# EAGLE library part PIC18F4458 (library PIC18)
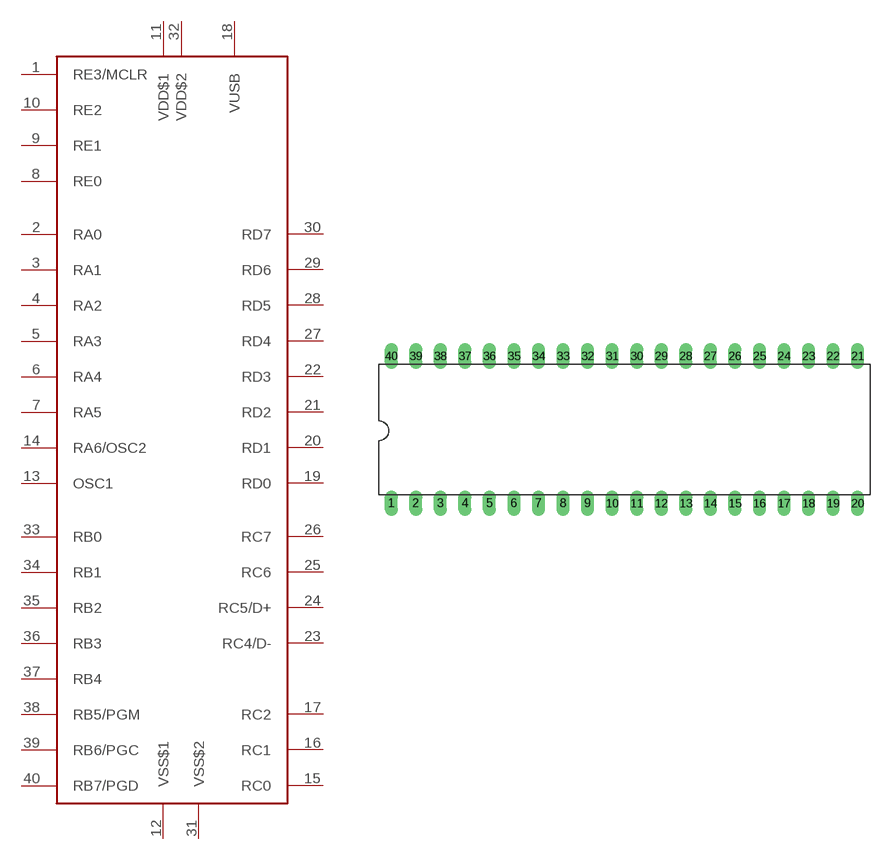
[diagram p0: symbol with the pads of DIL40; footprint DIL40]

Designator prefix -

## PIC18F4458  [DIL40]
1  RE3/MCLR
2  RA0
3  RA1
4  RA2
5  RA3
6  RA4
7  RA5
8  RE0
9  RE1
10  RE2
11  VDD$1
12  VSS$1
13  OSC1
14  RA6/OSC2
15  RC0
16  RC1
17  RC2
18  VUSB
19  RD0
20  RD1
21  RD2
22  RD3
23  RC4/D-
24  RC5/D+
25  RC6
26  RC7
27  RD4
28  RD5
29  RD6
30  RD7
31  VSS$2
32  VDD$2
33  RB0
34  RB1
35  RB2
36  RB3
37  RB4
38  RB5/PGM
39  RB6/PGC
40  RB7/PGD

## Footprint DIL40 (pad centres in mm)
Dual In Line Package
drill 0.813 long: 1 -24.13,-7.62; 2 -21.59,-7.62; 3 -19.05,-7.62; 4 -16.51,-7.62; 5 -13.97,-7.62; 6 -11.43,-7.62; 7 -8.89,-7.62; 8 -6.35,-7.62; 9 -3.81,-7.62; 10 -1.27,-7.62; 11 1.27,-7.62; 12 3.81,-7.62; 13 6.35,-7.62; 14 8.89,-7.62; 15 11.43,-7.62; 16 13.97,-7.62; 17 16.51,-7.62; 18 19.05,-7.62; 19 21.59,-7.62; 20 24.13,-7.62; 21 24.13,7.62; 22 21.59,7.62; 23 19.05,7.62; 24 16.51,7.62; 25 13.97,7.62; 26 11.43,7.62; 27 8.89,7.62; 28 6.35,7.62; 29 3.81,7.62; 30 1.27,7.62; 31 -1.27,7.62; 32 -3.81,7.62; 33 -6.35,7.62; 34 -8.89,7.62; 35 -11.43,7.62; 36 -13.97,7.62; 37 -16.51,7.62; 38 -19.05,7.62; 39 -21.59,7.62; 40 -24.13,7.62